# Altium schematic symbol library SCH - POWER - LINEAR VREG - ANALOG LT1763 DE FIXED.SCHLIB: 1 symbol
Pins are listed as number, name and electrical type; pins without a type are passive.

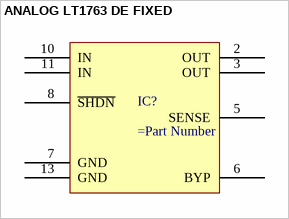
[diagram p0: symbol ANALOG LT1763 DE FIXED]

## ANALOG LT1763 DE FIXED
designator IC?
pins: 2 OUT, 3 OUT, 5 SENSE, 6 BYP, 7 GND, 8 ~{SHDN}, 10 IN, 11 IN, 13 GND